# EAGLE library part 941H-2C-* (library Parts)
HSIN DA 941 Series Relay
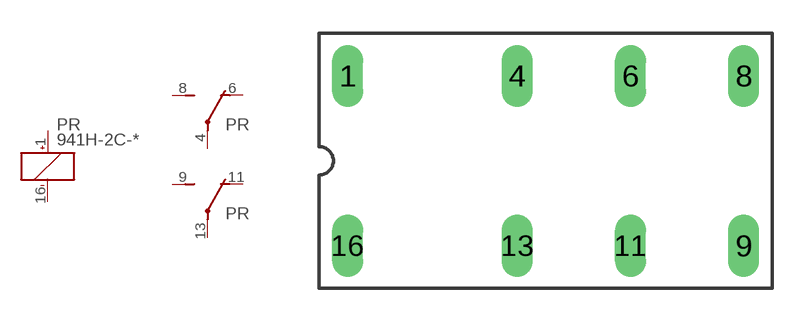
[diagram p8: symbol with the pads of 941H-2C; footprint 941H-2C]

Designator prefix PR; gates 1=K+- 2=U 3=U

## 941H-2C-12D  [941H-2C]
1  1:+  pas
4  2:P  pas
6  2:O  pas
8  2:S  pas
9  3:S  pas
11  3:O  pas
13  3:P  pas
16  1:-  pas

## Footprint 941H-2C (pad centres in mm)
drill 0.8 pad 1.4 long: 1 0,7.62; 4 7.62,7.62; 6 12.7,7.62; 8 17.78,7.62; 9 17.78,0; 11 12.7,0; 13 7.62,0; 16 0,0